# Altium footprint library con-3m.PCBLIB: 62 footprints (part 3 of 5)
Each footprint in its own frame and in the unit in brackets; x right, y up, seen from the top. Pads: shape width x height; smd on the part's side, far side on the other; paste and mask are expansions set on the pad; w line width, h text height; cw(c..) or ccw(c..) is an arc to the next point about the centre after c.
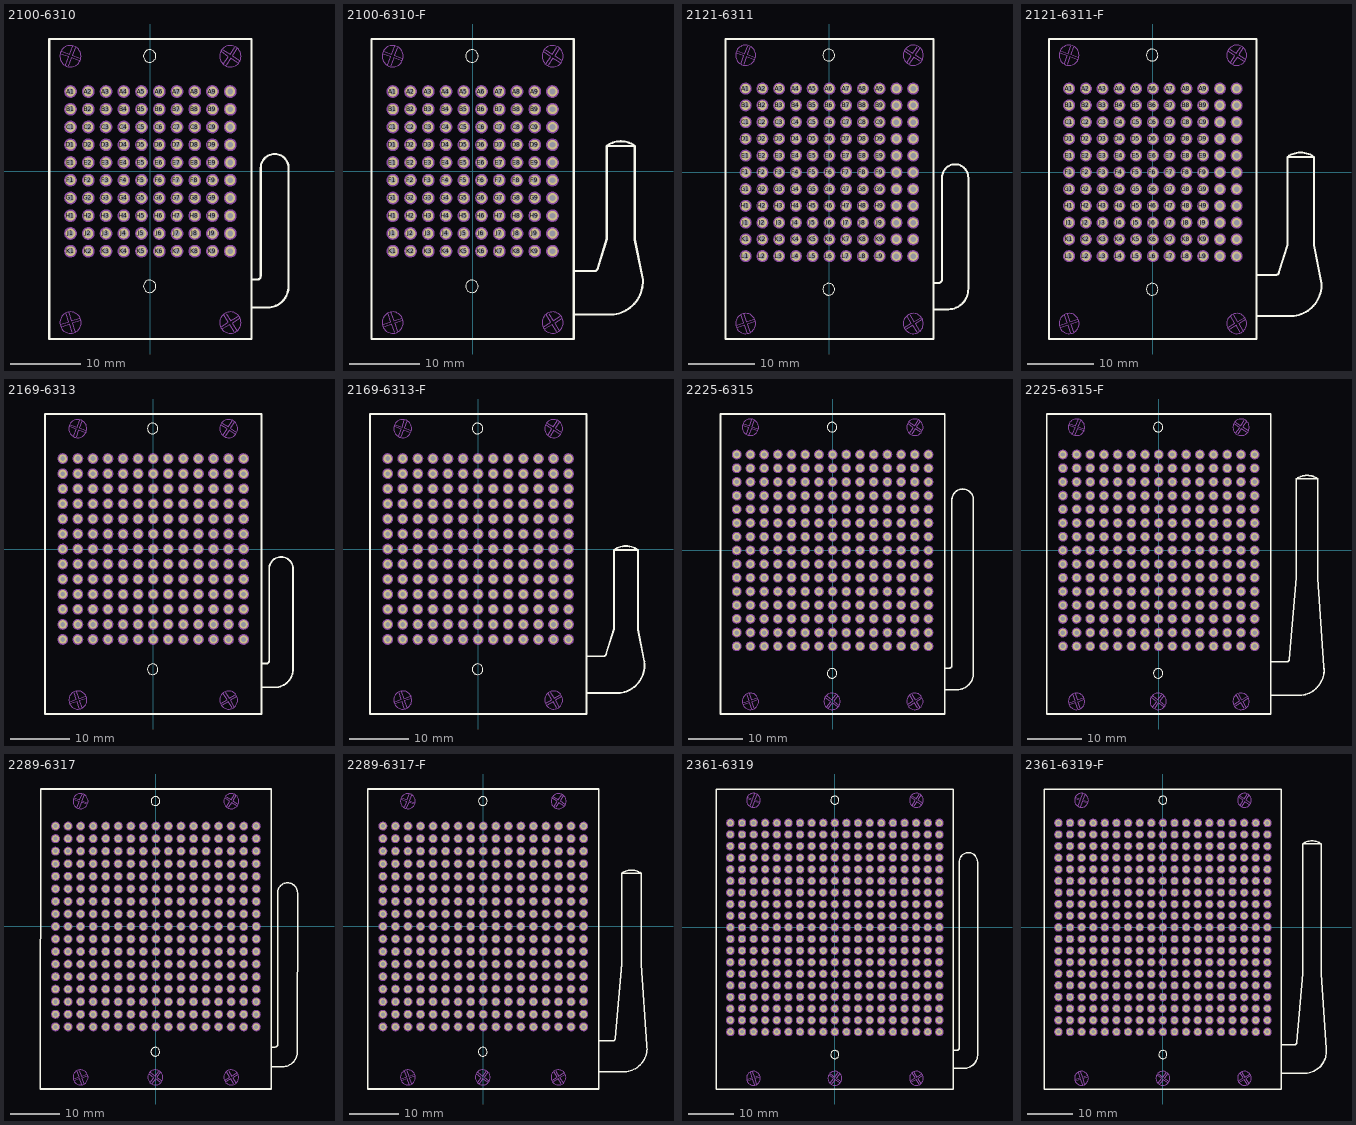
[diagram p2: the footprints below, top view; thin cyan lines are the x and y axes]

## 2100-6310 [mil]
pads (100):
  round 56 hole 32: A1(-450,450) A2(-350,450) A3(-250,450) A4(-150,450) A5(-50,450) A6(50,450) A7(150,450) A8(250,450) A9(350,450) A10(450,450) B1(-450,350) B2(-350,350) B3(-250,350) B4(-150,350) B5(-50,350) B6(50,350) B7(150,350) B8(250,350) B9(350,350) B10(450,350) C1(-450,250) C2(-350,250) C3(-250,250) C4(-150,250) C5(-50,250) C6(50,250) C7(150,250) C8(250,250) C9(350,250) C10(450,250) D1(-450,150) D2(-350,150) D3(-250,150) D4(-150,150) D5(-50,150) D6(50,150) D7(150,150) D8(250,150) D9(350,150) D10(450,150) E1(-450,50) E2(-350,50) E3(-250,50) E4(-150,50) E5(-50,50) E6(50,50) E7(150,50) E8(250,50) E9(350,50) E10(450,50) F1(-450,-50) F2(-350,-50) F3(-250,-50) F4(-150,-50) F5(-50,-50) F6(50,-50) F7(150,-50) F8(250,-50) F9(350,-50) F10(450,-50) G1(-450,-150) G2(-350,-150) G3(-250,-150) G4(-150,-150) G5(-50,-150) G6(50,-150) G7(150,-150) G8(250,-150) G9(350,-150) G10(450,-150) H1(-450,-250) H2(-350,-250) H3(-250,-250) H4(-150,-250) H5(-50,-250) H6(50,-250) H7(150,-250) H8(250,-250) H9(350,-250) H10(450,-250) J1(-450,-350) J2(-350,-350) J3(-250,-350) J4(-150,-350) J5(-50,-350) J6(50,-350) J7(150,-350) J8(250,-350) J9(350,-350) J10(450,-350) K1(-450,-450) K2(-350,-450) K3(-250,-450) K4(-150,-450) K5(-50,-450) K6(50,-450) K7(150,-450) K8(250,-450) K9(350,-450) K10(450,-450)
Top Overlay:
  circle w4: c-3.94,650 r35
  circle w4: c-3.94,-647.82 r35
  lines w12: 572,-767.52 661,-767.52 ccw(c658.88,-647.4) 779,-645.28 779,19 ccw(c700.5,19.5) 701,98 ccw(c701,19) 622,19 622,-590.35 cw(c602.16,-590.2) 602,-610.04 572,-610.04 ; -569.88,-944.68 570,-944.68 570,746 -569.88,746 -569.88,-944.68
Mechanical 16:
  circle w12: c-450,450 r30
  circle w12: c-450,350 r30
  circle w12: c-450,250 r30
  circle w12: c-450,150 r30
  circle w12: c-450,50 r30
  circle w12: c-450,-50 r30
  circle w12: c-450,-150 r30
  circle w12: c-450,-250 r30
  circle w12: c-450,-350 r30
  circle w12: c-450,-450 r30
  circle w12: c-350,450 r30
  circle w12: c-350,350 r30
  circle w12: c-350,250 r30
  circle w12: c-350,150 r30
  circle w12: c-350,50 r30
  circle w12: c-350,-50 r30
  circle w12: c-350,-150 r30
  circle w12: c-350,-250 r30
  circle w12: c-350,-350 r30
  circle w12: c-350,-450 r30
  circle w12: c-250,450 r30
  circle w12: c-250,350 r30
  circle w12: c-250,250 r30
  circle w12: c-250,150 r30
  circle w12: c-250,50 r30
  circle w12: c-250,-50 r30
  circle w12: c-250,-150 r30
  circle w12: c-250,-250 r30
  circle w12: c-250,-350 r30
  circle w12: c-250,-450 r30
  circle w12: c-150,450 r30
  circle w12: c-150,350 r30
  circle w12: c-150,250 r30
  circle w12: c-150,150 r30
  circle w12: c-150,50 r30
  circle w12: c-150,-50 r30
  circle w12: c-150,-150 r30
  circle w12: c-150,-250 r30
  circle w12: c-150,-350 r30
  circle w12: c-150,-450 r30
  circle w12: c-50,450 r30
  circle w12: c-50,350 r30
  circle w12: c-50,250 r30
  circle w12: c-50,150 r30
  circle w12: c-50,50 r30
  circle w12: c-50,-50 r30
  circle w12: c-50,-150 r30
  circle w12: c-50,-250 r30
  circle w12: c-50,-350 r30
  circle w12: c-50,-450 r30
  circle w12: c50,450 r30
  circle w12: c50,350 r30
  circle w12: c50,250 r30
  circle w12: c50,150 r30
  circle w12: c50,50 r30
  circle w12: c50,-50 r30
  circle w12: c50,-150 r30
  circle w12: c50,-250 r30
  circle w12: c50,-350 r30
  circle w12: c50,-450 r30
  circle w12: c150,450 r30
  circle w12: c150,350 r30
  circle w12: c150,250 r30
  circle w12: c150,150 r30
  circle w12: c150,50 r30
  circle w12: c150,-50 r30
  circle w12: c150,-150 r30
  circle w12: c150,-250 r30
  circle w12: c150,-350 r30
  circle w12: c150,-450 r30
  circle w12: c250,450 r30
  circle w12: c250,350 r30
  circle w12: c250,250 r30
  circle w12: c250,150 r30
  circle w12: c250,50 r30
  circle w12: c250,-50 r30
  circle w12: c250,-150 r30
  circle w12: c250,-250 r30
  circle w12: c250,-350 r30
  circle w12: c250,-450 r30
  circle w12: c350,450 r30
  circle w12: c350,350 r30
  circle w12: c350,250 r30
  circle w12: c350,150 r30
  circle w12: c350,50 r30
  circle w12: c350,-50 r30
  circle w12: c350,-150 r30
  circle w12: c350,-250 r30
  circle w12: c350,-350 r30
  circle w12: c350,-450 r30
  circle w12: c450,450 r30
  circle w12: c450,350 r30
  circle w12: c450,250 r30
  circle w12: c450,150 r30
  circle w12: c450,50 r30
  circle w12: c450,-50 r30
  circle w12: c450,-150 r30
  circle w12: c450,-250 r30
  circle w12: c450,-350 r30
  circle w12: c450,-450 r30
  circle w4: c-450,-852.36 r60
  circle w4: c451,-852.36 r60
  circle w4: c-450.39,649 r60
  circle w4: c451,649 r60
  lines w4: -504.83,661 -460.5,645 -476.81,600 ; -504.77,-862.38 -459.96,-847.39 -474.95,-802.59 ; -499.77,-877.32 -454.97,-862.33 -439.98,-907.13 ; -499.4,676 -455.06,659 -438.75,704 ; -462.04,595 -445.72,639 -401.38,623 ; -460.02,-797.59 -445.03,-842.39 -400.23,-827.41 ; -425.04,-902.13 -440.03,-857.33 -395.23,-842.34 ; -423.97,698 -440.28,654 -395.95,638 ; 400,-874.35 440,-849.74 415,-809.42 ; 401,673 440,647 414,608 ; 408,-887.8 448,-863.18 473,-903.51 ; 409,686 449,660 475,700 ; 427,599 453,638 493,612 ; 429,-801.21 454,-841.53 494,-816.92 ; 486,-895.3 462,-854.98 502,-830.36 ; 488,691 462,652 501,626

## 2100-6310-F [mil]
pads (100):
  round 56 hole 32: A1(-450,450) A2(-350,450) A3(-250,450) A4(-150,450) A5(-50,450) A6(50,450) A7(150,450) A8(250,450) A9(350,450) A10(450,450) B1(-450,350) B2(-350,350) B3(-250,350) B4(-150,350) B5(-50,350) B6(50,350) B7(150,350) B8(250,350) B9(350,350) B10(450,350) C1(-450,250) C2(-350,250) C3(-250,250) C4(-150,250) C5(-50,250) C6(50,250) C7(150,250) C8(250,250) C9(350,250) C10(450,250) D1(-450,150) D2(-350,150) D3(-250,150) D4(-150,150) D5(-50,150) D6(50,150) D7(150,150) D8(250,150) D9(350,150) D10(450,150) E1(-450,50) E2(-350,50) E3(-250,50) E4(-150,50) E5(-50,50) E6(50,50) E7(150,50) E8(250,50) E9(350,50) E10(450,50) F1(-450,-50) F2(-350,-50) F3(-250,-50) F4(-150,-50) F5(-50,-50) F6(50,-50) F7(150,-50) F8(250,-50) F9(350,-50) F10(450,-50) G1(-450,-150) G2(-350,-150) G3(-250,-150) G4(-150,-150) G5(-50,-150) G6(50,-150) G7(150,-150) G8(250,-150) G9(350,-150) G10(450,-150) H1(-450,-250) H2(-350,-250) H3(-250,-250) H4(-150,-250) H5(-50,-250) H6(50,-250) H7(150,-250) H8(250,-250) H9(350,-250) H10(450,-250) J1(-450,-350) J2(-350,-350) J3(-250,-350) J4(-150,-350) J5(-50,-350) J6(50,-350) J7(150,-350) J8(250,-350) J9(350,-350) J10(450,-350) K1(-450,-450) K2(-350,-450) K3(-250,-450) K4(-150,-450) K5(-50,-450) K6(50,-450) K7(150,-450) K8(250,-450) K9(350,-450) K10(450,-450)
Top Overlay:
  circle w4: c-3.94,650 r35
  circle w4: c-3.94,-647.82 r35
  lines w12: 573,-805.91 796,-805.91 ccw(c772.67,-620.57) 958,-597.24 914,-383.86 914,144 ; 577,-561.81 686,-561.81 ccw(c686.16,-541.97) 706,-542.13 756,-381.89 756,144 ; 756,144 914,144 ; 756,144 cw(c835,35.98) 914,144 ; -569.88,-944.68 570,-944.68 570,746 -569.88,746 -569.88,-944.68
Mechanical 16:
  circle w12: c-450,450 r30
  circle w12: c-450,350 r30
  circle w12: c-450,250 r30
  circle w12: c-450,150 r30
  circle w12: c-450,50 r30
  circle w12: c-450,-50 r30
  circle w12: c-450,-150 r30
  circle w12: c-450,-250 r30
  circle w12: c-450,-350 r30
  circle w12: c-450,-450 r30
  circle w12: c-350,450 r30
  circle w12: c-350,350 r30
  circle w12: c-350,250 r30
  circle w12: c-350,150 r30
  circle w12: c-350,50 r30
  circle w12: c-350,-50 r30
  circle w12: c-350,-150 r30
  circle w12: c-350,-250 r30
  circle w12: c-350,-350 r30
  circle w12: c-350,-450 r30
  circle w12: c-250,450 r30
  circle w12: c-250,350 r30
  circle w12: c-250,250 r30
  circle w12: c-250,150 r30
  circle w12: c-250,50 r30
  circle w12: c-250,-50 r30
  circle w12: c-250,-150 r30
  circle w12: c-250,-250 r30
  circle w12: c-250,-350 r30
  circle w12: c-250,-450 r30
  circle w12: c-150,450 r30
  circle w12: c-150,350 r30
  circle w12: c-150,250 r30
  circle w12: c-150,150 r30
  circle w12: c-150,50 r30
  circle w12: c-150,-50 r30
  circle w12: c-150,-150 r30
  circle w12: c-150,-250 r30
  circle w12: c-150,-350 r30
  circle w12: c-150,-450 r30
  circle w12: c-50,450 r30
  circle w12: c-50,350 r30
  circle w12: c-50,250 r30
  circle w12: c-50,150 r30
  circle w12: c-50,50 r30
  circle w12: c-50,-50 r30
  circle w12: c-50,-150 r30
  circle w12: c-50,-250 r30
  circle w12: c-50,-350 r30
  circle w12: c-50,-450 r30
  circle w12: c50,450 r30
  circle w12: c50,350 r30
  circle w12: c50,250 r30
  circle w12: c50,150 r30
  circle w12: c50,50 r30
  circle w12: c50,-50 r30
  circle w12: c50,-150 r30
  circle w12: c50,-250 r30
  circle w12: c50,-350 r30
  circle w12: c50,-450 r30
  circle w12: c150,450 r30
  circle w12: c150,350 r30
  circle w12: c150,250 r30
  circle w12: c150,150 r30
  circle w12: c150,50 r30
  circle w12: c150,-50 r30
  circle w12: c150,-150 r30
  circle w12: c150,-250 r30
  circle w12: c150,-350 r30
  circle w12: c150,-450 r30
  circle w12: c250,450 r30
  circle w12: c250,350 r30
  circle w12: c250,250 r30
  circle w12: c250,150 r30
  circle w12: c250,50 r30
  circle w12: c250,-50 r30
  circle w12: c250,-150 r30
  circle w12: c250,-250 r30
  circle w12: c250,-350 r30
  circle w12: c250,-450 r30
  circle w12: c350,450 r30
  circle w12: c350,350 r30
  circle w12: c350,250 r30
  circle w12: c350,150 r30
  circle w12: c350,50 r30
  circle w12: c350,-50 r30
  circle w12: c350,-150 r30
  circle w12: c350,-250 r30
  circle w12: c350,-350 r30
  circle w12: c350,-450 r30
  circle w12: c450,450 r30
  circle w12: c450,350 r30
  circle w12: c450,250 r30
  circle w12: c450,150 r30
  circle w12: c450,50 r30
  circle w12: c450,-50 r30
  circle w12: c450,-150 r30
  circle w12: c450,-250 r30
  circle w12: c450,-350 r30
  circle w12: c450,-450 r30
  circle w4: c-450,-852.36 r60
  circle w4: c451,-852.36 r60
  circle w4: c-450.39,649 r60
  circle w4: c451,649 r60
  lines w4: -504.83,661 -460.5,645 -476.81,600 ; -504.77,-862.38 -459.96,-847.39 -474.95,-802.59 ; -499.77,-877.32 -454.97,-862.33 -439.98,-907.13 ; -499.4,676 -455.06,659 -438.75,704 ; -462.04,595 -445.72,639 -401.38,623 ; -460.02,-797.59 -445.03,-842.39 -400.23,-827.41 ; -425.04,-902.13 -440.03,-857.33 -395.23,-842.34 ; -423.97,698 -440.28,654 -395.95,638 ; 400,-874.35 440,-849.74 415,-809.42 ; 401,673 440,647 414,608 ; 408,-887.8 448,-863.18 473,-903.51 ; 409,686 449,660 475,700 ; 427,599 453,638 493,612 ; 429,-801.21 454,-841.53 494,-816.92 ; 486,-895.3 462,-854.98 502,-830.36 ; 488,691 462,652 501,626

## 2121-6311 [mil]
pads (121):
  round 56 hole 32: A1(-500,500) A2(-400,500) A3(-300,500) A4(-200,500) A5(-100,500) A6(0,500) A7(100,500) A8(200,500) A9(300,500) A10(400,500) A11(500,500) B1(-500,400) B2(-400,400) B3(-300,400) B4(-200,400) B5(-100,400) B6(0,400) B7(100,400) B8(200,400) B9(300,400) B10(400,400) B11(500,400) C1(-500,300) C2(-400,300) C3(-300,300) C4(-200,300) C5(-100,300) C6(0,300) C7(100,300) C8(200,300) C9(300,300) C10(400,300) C11(500,300) D1(-500,200) D2(-400,200) D3(-300,200) D4(-200,200) D5(-100,200) D6(0,200) D7(100,200) D8(200,200) D9(300,200) D10(400,200) D11(500,200) E1(-500,100) E2(-400,100) E3(-300,100) E4(-200,100) E5(-100,100) E6(0,100) E7(100,100) E8(200,100) E9(300,100) E10(400,100) E11(500,100) F1(-500,0) F2(-400,0) F3(-300,0) F4(-200,0) F5(-100,0) F6(0,0) F7(100,0) F8(200,0) F9(300,0) F10(400,0) F11(500,0) G1(-500,-100) G2(-400,-100) G3(-300,-100) G4(-200,-100) G5(-100,-100) G6(0,-100) G7(100,-100) G8(200,-100) G9(300,-100) G10(400,-100) G11(500,-100) H1(-500,-200) H2(-400,-200) H3(-300,-200) H4(-200,-200) H5(-100,-200) H6(0,-200) H7(100,-200) H8(200,-200) H9(300,-200) H10(400,-200) H11(500,-200) J1(-500,-300) J2(-400,-300) J3(-300,-300) J4(-200,-300) J5(-100,-300) J6(0,-300) J7(100,-300) J8(200,-300) J9(300,-300) J10(400,-300) J11(500,-300) K1(-500,-400) K2(-400,-400) K3(-300,-400) K4(-200,-400) K5(-100,-400) K6(0,-400) K7(100,-400) K8(200,-400) K9(300,-400) K10(400,-400) K11(500,-400) L1(-500,-500) L2(-400,-500) L3(-300,-500) L4(-200,-500) L5(-100,-500) L6(0,-500) L7(100,-500) L8(200,-500) L9(300,-500) L10(400,-500) L11(500,-500)
Top Overlay:
  circle w4: c-3.94,700 r35
  circle w4: c-3.94,-697.82 r35
  lines w12: 622,-817.52 711,-817.52 ccw(c708.88,-697.4) 829,-695.28 829,-31.1 ccw(c750.45,-30.55) 751,48 ccw(c751.05,-31.05) 672,-31.1 672,-640.35 cw(c652.16,-640.2) 652,-660.04 622,-660.04 ; -619.88,-994.68 620,-994.68 620,796 -619.88,796 -619.88,-994.68
Mechanical 16:
  drawing of 157 lines, arcs and shapes, not listed

## 2121-6311-F [mil]
pads (121):
  round 56 hole 32: A1(-500,500) A2(-400,500) A3(-300,500) A4(-200,500) A5(-100,500) A6(0,500) A7(100,500) A8(200,500) A9(300,500) A10(400,500) A11(500,500) B1(-500,400) B2(-400,400) B3(-300,400) B4(-200,400) B5(-100,400) B6(0,400) B7(100,400) B8(200,400) B9(300,400) B10(400,400) B11(500,400) C1(-500,300) C2(-400,300) C3(-300,300) C4(-200,300) C5(-100,300) C6(0,300) C7(100,300) C8(200,300) C9(300,300) C10(400,300) C11(500,300) D1(-500,200) D2(-400,200) D3(-300,200) D4(-200,200) D5(-100,200) D6(0,200) D7(100,200) D8(200,200) D9(300,200) D10(400,200) D11(500,200) E1(-500,100) E2(-400,100) E3(-300,100) E4(-200,100) E5(-100,100) E6(0,100) E7(100,100) E8(200,100) E9(300,100) E10(400,100) E11(500,100) F1(-500,0) F2(-400,0) F3(-300,0) F4(-200,0) F5(-100,0) F6(0,0) F7(100,0) F8(200,0) F9(300,0) F10(400,0) F11(500,0) G1(-500,-100) G2(-400,-100) G3(-300,-100) G4(-200,-100) G5(-100,-100) G6(0,-100) G7(100,-100) G8(200,-100) G9(300,-100) G10(400,-100) G11(500,-100) H1(-500,-200) H2(-400,-200) H3(-300,-200) H4(-200,-200) H5(-100,-200) H6(0,-200) H7(100,-200) H8(200,-200) H9(300,-200) H10(400,-200) H11(500,-200) J1(-500,-300) J2(-400,-300) J3(-300,-300) J4(-200,-300) J5(-100,-300) J6(0,-300) J7(100,-300) J8(200,-300) J9(300,-300) J10(400,-300) J11(500,-300) K1(-500,-400) K2(-400,-400) K3(-300,-400) K4(-200,-400) K5(-100,-400) K6(0,-400) K7(100,-400) K8(200,-400) K9(300,-400) K10(400,-400) K11(500,-400) L1(-500,-500) L2(-400,-500) L3(-300,-500) L4(-200,-500) L5(-100,-500) L6(0,-500) L7(100,-500) L8(200,-500) L9(300,-500) L10(400,-500) L11(500,-500)
Top Overlay:
  circle w4: c-3.94,700 r35
  circle w4: c-3.94,-697.82 r35
  lines w12: 620,-857.09 843,-857.09 ccw(c819.67,-671.76) 1005,-648.43 961,-435.04 961,93 ; 624,-612.99 733,-612.99 ccw(c733.16,-593.15) 753,-593.31 804,-433.07 804,93 ; 804,93 961,93 ; 804,93 cw(c882.5,-14.33) 961,93 ; -619.88,-994.68 620,-994.68 620,796 -619.88,796 -619.88,-994.68
Mechanical 16:
  drawing of 157 lines, arcs and shapes, not listed

## 2169-6313 [mil]
pads (169):
  round 56 hole 32: A1(-600,600) A2(-500,600) A3(-400,600) A4(-300,600) A5(-200,600) A6(-100,600) A7(0,600) A8(100,600) A9(200,600) A10(300,600) A11(400,600) A12(500,600) A13(600,600) B1(-600,500) B2(-500,500) B3(-400,500) B4(-300,500) B5(-200,500) B6(-100,500) B7(0,500) B8(100,500) B9(200,500) B10(300,500) B11(400,500) B12(500,500) B13(600,500) C1(-600,400) C2(-500,400) C3(-400,400) C4(-300,400) C5(-200,400) C6(-100,400) C7(0,400) C8(100,400) C9(200,400) C10(300,400) C11(400,400) C12(500,400) C13(600,400) D1(-600,300) D2(-500,300) D3(-400,300) D4(-300,300) D5(-200,300) D6(-100,300) D7(0,300) D8(100,300) D9(200,300) D10(300,300) D11(400,300) D12(500,300) D13(600,300) E1(-600,200) E2(-500,200) E3(-400,200) E4(-300,200) E5(-200,200) E6(-100,200) E7(0,200) E8(100,200) E9(200,200) E10(300,200) E11(400,200) E12(500,200) E13(600,200) F1(-600,100) F2(-500,100) F3(-400,100) F4(-300,100) F5(-200,100) F6(-100,100) F7(0,100) F8(100,100) F9(200,100) F10(300,100) F11(400,100) F12(500,100) F13(600,100) G1(-600,0) G2(-500,0) G3(-400,0) G4(-300,0) G5(-200,0) G6(-100,0) G7(0,0) G8(100,0) G9(200,0) G10(300,0) G11(400,0) G12(500,0) G13(600,0) H1(-600,-100) H2(-500,-100) H3(-400,-100) H4(-300,-100) H5(-200,-100) H6(-100,-100) H7(0,-100) H8(100,-100) H9(200,-100) H10(300,-100) H11(400,-100) H12(500,-100) H13(600,-100) J1(-600,-200) J2(-500,-200) J3(-400,-200) J4(-300,-200) J5(-200,-200) J6(-100,-200) J7(0,-200) J8(100,-200) J9(200,-200) J10(300,-200) J11(400,-200) J12(500,-200) J13(600,-200) K1(-600,-300) K2(-500,-300) K3(-400,-300) K4(-300,-300) K5(-200,-300) K6(-100,-300) K7(0,-300) K8(100,-300) K9(200,-300) K10(300,-300) K11(400,-300) K12(500,-300) K13(600,-300) L1(-600,-400) L2(-500,-400) L3(-400,-400) L4(-300,-400) L5(-200,-400) L6(-100,-400) L7(0,-400) L8(100,-400) L9(200,-400) L10(300,-400) L11(400,-400) L12(500,-400) L13(600,-400) M1(-600,-500) M2(-500,-500) M3(-400,-500) M4(-300,-500) M5(-200,-500) M6(-100,-500) M7(0,-500) M8(100,-500) M9(200,-500) M10(300,-500) M11(400,-500) M12(500,-500) M13(600,-500) N1(-600,-600) N2(-500,-600) N3(-400,-600) N4(-300,-600) N5(-200,-600) N6(-100,-600) N7(0,-600) N8(100,-600) N9(200,-600) N10(300,-600) N11(400,-600) N12(500,-600) N13(600,-600)
Top Overlay:
  circle w4: c-3.94,800 r35
  circle w4: c-3.94,-797.82 r35
  lines w12: 721,-917.52 810,-917.52 ccw(c807.88,-797.4) 928,-795.28 928,-131.1 ccw(c849.13,-131.23) 849,-52.36 ccw(c848.87,-131.23) 770,-131.1 770,-740.35 cw(c750.66,-740.7) 751,-760.04 721,-760.04 ; -718.31,-1094.68 719,-1094.68 719,896 -718.31,896 -718.31,-1094.68
Mechanical 16:
  drawing of 205 lines, arcs and shapes, not listed

## 2169-6313-F [mil]
pads (169):
  round 56 hole 32: A1(-600,600) A2(-500,600) A3(-400,600) A4(-300,600) A5(-200,600) A6(-100,600) A7(0,600) A8(100,600) A9(200,600) A10(300,600) A11(400,600) A12(500,600) A13(600,600) B1(-600,500) B2(-500,500) B3(-400,500) B4(-300,500) B5(-200,500) B6(-100,500) B7(0,500) B8(100,500) B9(200,500) B10(300,500) B11(400,500) B12(500,500) B13(600,500) C1(-600,400) C2(-500,400) C3(-400,400) C4(-300,400) C5(-200,400) C6(-100,400) C7(0,400) C8(100,400) C9(200,400) C10(300,400) C11(400,400) C12(500,400) C13(600,400) D1(-600,300) D2(-500,300) D3(-400,300) D4(-300,300) D5(-200,300) D6(-100,300) D7(0,300) D8(100,300) D9(200,300) D10(300,300) D11(400,300) D12(500,300) D13(600,300) E1(-600,200) E2(-500,200) E3(-400,200) E4(-300,200) E5(-200,200) E6(-100,200) E7(0,200) E8(100,200) E9(200,200) E10(300,200) E11(400,200) E12(500,200) E13(600,200) F1(-600,100) F2(-500,100) F3(-400,100) F4(-300,100) F5(-200,100) F6(-100,100) F7(0,100) F8(100,100) F9(200,100) F10(300,100) F11(400,100) F12(500,100) F13(600,100) G1(-600,0) G2(-500,0) G3(-400,0) G4(-300,0) G5(-200,0) G6(-100,0) G7(0,0) G8(100,0) G9(200,0) G10(300,0) G11(400,0) G12(500,0) G13(600,0) H1(-600,-100) H2(-500,-100) H3(-400,-100) H4(-300,-100) H5(-200,-100) H6(-100,-100) H7(0,-100) H8(100,-100) H9(200,-100) H10(300,-100) H11(400,-100) H12(500,-100) H13(600,-100) J1(-600,-200) J2(-500,-200) J3(-400,-200) J4(-300,-200) J5(-200,-200) J6(-100,-200) J7(0,-200) J8(100,-200) J9(200,-200) J10(300,-200) J11(400,-200) J12(500,-200) J13(600,-200) K1(-600,-300) K2(-500,-300) K3(-400,-300) K4(-300,-300) K5(-200,-300) K6(-100,-300) K7(0,-300) K8(100,-300) K9(200,-300) K10(300,-300) K11(400,-300) K12(500,-300) K13(600,-300) L1(-600,-400) L2(-500,-400) L3(-400,-400) L4(-300,-400) L5(-200,-400) L6(-100,-400) L7(0,-400) L8(100,-400) L9(200,-400) L10(300,-400) L11(400,-400) L12(500,-400) L13(600,-400) M1(-600,-500) M2(-500,-500) M3(-400,-500) M4(-300,-500) M5(-200,-500) M6(-100,-500) M7(0,-500) M8(100,-500) M9(200,-500) M10(300,-500) M11(400,-500) M12(500,-500) M13(600,-500) N1(-600,-600) N2(-500,-600) N3(-400,-600) N4(-300,-600) N5(-200,-600) N6(-100,-600) N7(0,-600) N8(100,-600) N9(200,-600) N10(300,-600) N11(400,-600) N12(500,-600) N13(600,-600)
Top Overlay:
  circle w4: c-3.94,800 r35
  circle w4: c-3.94,-797.82 r35
  lines w12: 719,-955.51 942,-955.51 ccw(c918.17,-770.68) 1103,-746.85 1060,-533.46 1060,-5.91 ; 723,-711.42 832,-711.42 ccw(c831.66,-692.07) 851,-691.73 902,-531.5 902,-5.91 ; 902,-5.91 1060,-5.91 ; 902,-5.91 cw(c981,-113.92) 1060,-5.91 ; -718.31,-1094.68 719,-1094.68 719,896 -718.31,896 -718.31,-1094.68
Mechanical 16:
  drawing of 205 lines, arcs and shapes, not listed

## 2225-6315 [mil]
pads (225):
  round 56 hole 32: A1(-700,700) A2(-600,700) A3(-500,700) A4(-400,700) A5(-300,700) A6(-200,700) A7(-100,700) A8(0,700) A9(100,700) A10(200,700) A11(300,700) A12(400,700) A13(500,700) A14(600,700) A15(700,700) B1(-700,600) B2(-600,600) B3(-500,600) B4(-400,600) B5(-300,600) B6(-200,600) B7(-100,600) B8(0,600) B9(100,600) B10(200,600) B11(300,600) B12(400,600) B13(500,600) B14(600,600) B15(700,600) C1(-700,500) C2(-600,500) C3(-500,500) C4(-400,500) C5(-300,500) C6(-200,500) C7(-100,500) C8(0,500) C9(100,500) C10(200,500) C11(300,500) C12(400,500) C13(500,500) C14(600,500) C15(700,500) D1(-700,400) D2(-600,400) D3(-500,400) D4(-400,400) D5(-300,400) D6(-200,400) D7(-100,400) D8(0,400) D9(100,400) D10(200,400) D11(300,400) D12(400,400) D13(500,400) D14(600,400) D15(700,400) E1(-700,300) E2(-600,300) E3(-500,300) E4(-400,300) E5(-300,300) E6(-200,300) E7(-100,300) E8(0,300) E9(100,300) E10(200,300) E11(300,300) E12(400,300) E13(500,300) E14(600,300) E15(700,300) F1(-700,200) F2(-600,200) F3(-500,200) F4(-400,200) F5(-300,200) F6(-200,200) F7(-100,200) F8(0,200) F9(100,200) F10(200,200) F11(300,200) F12(400,200) F13(500,200) F14(600,200) F15(700,200) G1(-700,100) G2(-600,100) G3(-500,100) G4(-400,100) G5(-300,100) G6(-200,100) G7(-100,100) G8(0,100) G9(100,100) G10(200,100) G11(300,100) G12(400,100) G13(500,100) G14(600,100) G15(700,100) H1(-700,0) H2(-600,0) H3(-500,0) H4(-400,0) H5(-300,0) H6(-200,0) H7(-100,0) H8(0,0) H9(100,0) H10(200,0) H11(300,0) H12(400,0) H13(500,0) H14(600,0) H15(700,0) J1(-700,-100) J2(-600,-100) J3(-500,-100) J4(-400,-100) J5(-300,-100) J6(-200,-100) J7(-100,-100) J8(0,-100) J9(100,-100) J10(200,-100) J11(300,-100) J12(400,-100) J13(500,-100) J14(600,-100) J15(700,-100) K1(-700,-200) K2(-600,-200) K3(-500,-200) K4(-400,-200) K5(-300,-200) K6(-200,-200) K7(-100,-200) K8(0,-200) K9(100,-200) K10(200,-200) K11(300,-200) K12(400,-200) K13(500,-200) K14(600,-200) K15(700,-200) L1(-700,-300) L2(-600,-300) L3(-500,-300) L4(-400,-300) L5(-300,-300) L6(-200,-300) L7(-100,-300) L8(0,-300) L9(100,-300) L10(200,-300) L11(300,-300) L12(400,-300) L13(500,-300) L14(600,-300) L15(700,-300) M1(-700,-400) M2(-600,-400) M3(-500,-400) M4(-400,-400) M5(-300,-400) M6(-200,-400) M7(-100,-400) M8(0,-400) M9(100,-400) M10(200,-400) M11(300,-400) M12(400,-400) M13(500,-400) M14(600,-400) M15(700,-400) N1(-700,-500) N2(-600,-500) N3(-500,-500) N4(-400,-500) N5(-300,-500) N6(-200,-500) N7(-100,-500) N8(0,-500) N9(100,-500) N10(200,-500) N11(300,-500) N12(400,-500) N13(500,-500) N14(600,-500) N15(700,-500) P1(-700,-600) P2(-600,-600) P3(-500,-600) P4(-400,-600) P5(-300,-600) P6(-200,-600) P7(-100,-600) P8(0,-600) P9(100,-600) P10(200,-600) P11(300,-600) P12(400,-600) P13(500,-600) P14(600,-600) P15(700,-600) Q1(-700,-700) Q2(-600,-700) Q3(-500,-700) Q4(-400,-700) Q5(-300,-700) Q6(-200,-700) Q7(-100,-700) Q8(0,-700) Q9(100,-700) Q10(200,-700) Q11(300,-700) Q12(400,-700) Q13(500,-700) Q14(600,-700) Q15(700,-700)
Top Overlay:
  circle w4: c-3.94,900 r35
  circle w4: c-3.94,-897.82 r35
  lines w12: 821,-1017.52 910,-1017.52 ccw(c907.88,-897.4) 1028,-895.28 1028,369 ccw(c949.5,369.5) 950,448 ccw(c950,369) 871,369 871,-840.35 cw(c851.16,-840.2) 851,-860.04 821,-860.04 ; -818.7,-1194.68 819,-1194.68 819,996 -818.7,996 -818.7,-1194.68
Mechanical 16:
  drawing of 270 lines, arcs and shapes, not listed

## 2225-6315-F [mil]
pads (225):
  round 56 hole 32: A1(-700,700) A2(-600,700) A3(-500,700) A4(-400,700) A5(-300,700) A6(-200,700) A7(-100,700) A8(0,700) A9(100,700) A10(200,700) A11(300,700) A12(400,700) A13(500,700) A14(600,700) A15(700,700) B1(-700,600) B2(-600,600) B3(-500,600) B4(-400,600) B5(-300,600) B6(-200,600) B7(-100,600) B8(0,600) B9(100,600) B10(200,600) B11(300,600) B12(400,600) B13(500,600) B14(600,600) B15(700,600) C1(-700,500) C2(-600,500) C3(-500,500) C4(-400,500) C5(-300,500) C6(-200,500) C7(-100,500) C8(0,500) C9(100,500) C10(200,500) C11(300,500) C12(400,500) C13(500,500) C14(600,500) C15(700,500) D1(-700,400) D2(-600,400) D3(-500,400) D4(-400,400) D5(-300,400) D6(-200,400) D7(-100,400) D8(0,400) D9(100,400) D10(200,400) D11(300,400) D12(400,400) D13(500,400) D14(600,400) D15(700,400) E1(-700,300) E2(-600,300) E3(-500,300) E4(-400,300) E5(-300,300) E6(-200,300) E7(-100,300) E8(0,300) E9(100,300) E10(200,300) E11(300,300) E12(400,300) E13(500,300) E14(600,300) E15(700,300) F1(-700,200) F2(-600,200) F3(-500,200) F4(-400,200) F5(-300,200) F6(-200,200) F7(-100,200) F8(0,200) F9(100,200) F10(200,200) F11(300,200) F12(400,200) F13(500,200) F14(600,200) F15(700,200) G1(-700,100) G2(-600,100) G3(-500,100) G4(-400,100) G5(-300,100) G6(-200,100) G7(-100,100) G8(0,100) G9(100,100) G10(200,100) G11(300,100) G12(400,100) G13(500,100) G14(600,100) G15(700,100) H1(-700,0) H2(-600,0) H3(-500,0) H4(-400,0) H5(-300,0) H6(-200,0) H7(-100,0) H8(0,0) H9(100,0) H10(200,0) H11(300,0) H12(400,0) H13(500,0) H14(600,0) H15(700,0) J1(-700,-100) J2(-600,-100) J3(-500,-100) J4(-400,-100) J5(-300,-100) J6(-200,-100) J7(-100,-100) J8(0,-100) J9(100,-100) J10(200,-100) J11(300,-100) J12(400,-100) J13(500,-100) J14(600,-100) J15(700,-100) K1(-700,-200) K2(-600,-200) K3(-500,-200) K4(-400,-200) K5(-300,-200) K6(-200,-200) K7(-100,-200) K8(0,-200) K9(100,-200) K10(200,-200) K11(300,-200) K12(400,-200) K13(500,-200) K14(600,-200) K15(700,-200) L1(-700,-300) L2(-600,-300) L3(-500,-300) L4(-400,-300) L5(-300,-300) L6(-200,-300) L7(-100,-300) L8(0,-300) L9(100,-300) L10(200,-300) L11(300,-300) L12(400,-300) L13(500,-300) L14(600,-300) L15(700,-300) M1(-700,-400) M2(-600,-400) M3(-500,-400) M4(-400,-400) M5(-300,-400) M6(-200,-400) M7(-100,-400) M8(0,-400) M9(100,-400) M10(200,-400) M11(300,-400) M12(400,-400) M13(500,-400) M14(600,-400) M15(700,-400) N1(-700,-500) N2(-600,-500) N3(-500,-500) N4(-400,-500) N5(-300,-500) N6(-200,-500) N7(-100,-500) N8(0,-500) N9(100,-500) N10(200,-500) N11(300,-500) N12(400,-500) N13(500,-500) N14(600,-500) N15(700,-500) P1(-700,-600) P2(-600,-600) P3(-500,-600) P4(-400,-600) P5(-300,-600) P6(-200,-600) P7(-100,-600) P8(0,-600) P9(100,-600) P10(200,-600) P11(300,-600) P12(400,-600) P13(500,-600) P14(600,-600) P15(700,-600) Q1(-700,-700) Q2(-600,-700) Q3(-500,-700) Q4(-400,-700) Q5(-300,-700) Q6(-200,-700) Q7(-100,-700) Q8(0,-700) Q9(100,-700) Q10(200,-700) Q11(300,-700) Q12(400,-700) Q13(500,-700) Q14(600,-700) Q15(700,-700)
Top Overlay:
  circle w4: c-3.94,900 r35
  circle w4: c-3.94,-897.82 r35
  lines w12: 821,-1057.87 1044,-1057.87 ccw(c1020.67,-872.54) 1206,-849.21 1162,-202.76 1162,522 ; 825,-813.78 934,-813.78 ccw(c934.16,-793.94) 954,-794.09 1004,-200.79 1004,522 ; 1004,522 1162,522 ; 1004,522 cw(c1083,413.98) 1162,522 ; -818.7,-1194.68 819,-1194.68 819,996 -818.7,996 -818.7,-1194.68
Mechanical 16:
  drawing of 270 lines, arcs and shapes, not listed

## 2289-6317 [mil]
pads (289):
  round 56 hole 32: A1(-800,800) A2(-700,800) A3(-600,800) A4(-500,800) A5(-400,800) A6(-300,800) A7(-200,800) A8(-100,800) A9(0,800) A10(100,800) A11(200,800) A12(300,800) A13(400,800) A14(500,800) A15(600,800) A16(700,800) A17(800,800) B1(-800,700) B2(-700,700) B3(-600,700) B4(-500,700) B5(-400,700) B6(-300,700) B7(-200,700) B8(-100,700) B9(0,700) B10(100,700) B11(200,700) B12(300,700) B13(400,700) B14(500,700) B15(600,700) B16(700,700) B17(800,700) C1(-800,600) C2(-700,600) C3(-600,600) C4(-500,600) C5(-400,600) C6(-300,600) C7(-200,600) C8(-100,600) C9(0,600) C10(100,600) C11(200,600) C12(300,600) C13(400,600) C14(500,600) C15(600,600) C16(700,600) C17(800,600) D1(-800,500) D2(-700,500) D3(-600,500) D4(-500,500) D5(-400,500) D6(-300,500) D7(-200,500) D8(-100,500) D9(0,500) D10(100,500) D11(200,500) D12(300,500) D13(400,500) D14(500,500) D15(600,500) D16(700,500) D17(800,500) E1(-800,400) E2(-700,400) E3(-600,400) E4(-500,400) E5(-400,400) E6(-300,400) E7(-200,400) E8(-100,400) E9(0,400) E10(100,400) E11(200,400) E12(300,400) E13(400,400) E14(500,400) E15(600,400) E16(700,400) E17(800,400) F1(-800,300) F2(-700,300) F3(-600,300) F4(-500,300) F5(-400,300) F6(-300,300) F7(-200,300) F8(-100,300) F9(0,300) F10(100,300) F11(200,300) F12(300,300) F13(400,300) F14(500,300) F15(600,300) F16(700,300) F17(800,300) G1(-800,200) G2(-700,200) G3(-600,200) G4(-500,200) G5(-400,200) G6(-300,200) G7(-200,200) G8(-100,200) G9(0,200) G10(100,200) G11(200,200) G12(300,200) G13(400,200) G14(500,200) G15(600,200) G16(700,200) G17(800,200) H1(-800,100) H2(-700,100) H3(-600,100) H4(-500,100) H5(-400,100) H6(-300,100) H7(-200,100) H8(-100,100) H9(0,100) H10(100,100) H11(200,100) H12(300,100) H13(400,100) H14(500,100) H15(600,100) H16(700,100) H17(800,100) J1(-800,0) J2(-700,0) J3(-600,0) J4(-500,0) J5(-400,0) J6(-300,0) J7(-200,0) J8(-100,0) J9(0,0) J10(100,0) J11(200,0) J12(300,0) J13(400,0) J14(500,0) J15(600,0) J16(700,0) J17(800,0) K1(-800,-100) K2(-700,-100) K3(-600,-100) K4(-500,-100) K5(-400,-100) K6(-300,-100) K7(-200,-100) K8(-100,-100) K9(0,-100) K10(100,-100) K11(200,-100) K12(300,-100) K13(400,-100) K14(500,-100) K15(600,-100) K16(700,-100) K17(800,-100) L1(-800,-200) L2(-700,-200) L3(-600,-200) L4(-500,-200) L5(-400,-200) L6(-300,-200) L7(-200,-200) L8(-100,-200) L9(0,-200) L10(100,-200) L11(200,-200) L12(300,-200) L13(400,-200) L14(500,-200) L15(600,-200) L16(700,-200) L17(800,-200) M1(-800,-300) M2(-700,-300) M3(-600,-300) M4(-500,-300) M5(-400,-300) M6(-300,-300) M7(-200,-300) M8(-100,-300) M9(0,-300) M10(100,-300) M11(200,-300) M12(300,-300) M13(400,-300) M14(500,-300) M15(600,-300) M16(700,-300) M17(800,-300) N1(-800,-400) N2(-700,-400) N3(-600,-400) N4(-500,-400) N5(-400,-400) N6(-300,-400) N7(-200,-400) N8(-100,-400) N9(0,-400) N10(100,-400) N11(200,-400) N12(300,-400) N13(400,-400) N14(500,-400) N15(600,-400) N16(700,-400) N17(800,-400) P1(-800,-500) P2(-700,-500) P3(-600,-500) P4(-500,-500) P5(-400,-500) P6(-300,-500) P7(-200,-500) P8(-100,-500) P9(0,-500) P10(100,-500) P11(200,-500) P12(300,-500) P13(400,-500) P14(500,-500) P15(600,-500) P16(700,-500) P17(800,-500) Q1(-800,-600) Q2(-700,-600) Q3(-600,-600) Q4(-500,-600) Q5(-400,-600) Q6(-300,-600) Q7(-200,-600) Q8(-100,-600) Q9(0,-600) Q10(100,-600) Q11(200,-600) Q12(300,-600) Q13(400,-600) Q14(500,-600) Q15(600,-600) Q16(700,-600) Q17(800,-600) R1(-800,-700) R2(-700,-700) R3(-600,-700) R4(-500,-700) R5(-400,-700) R6(-300,-700) R7(-200,-700) R8(-100,-700) R9(0,-700) R10(100,-700) R11(200,-700) R12(300,-700) R13(400,-700) R14(500,-700) R15(600,-700) R16(700,-700) R17(800,-700) S1(-800,-800) S2(-700,-800) S3(-600,-800) S4(-500,-800) S5(-400,-800) S6(-300,-800) S7(-200,-800) S8(-100,-800) S9(0,-800) S10(100,-800) S11(200,-800) S12(300,-800) S13(400,-800) S14(500,-800) S15(600,-800) S16(700,-800) S17(800,-800)
Top Overlay:
  circle w4: c-3.94,1000 r35
  circle w4: c-4.33,-998.61 r35
  lines w12: 921,-1118.31 1010,-1118.31 ccw(c1007.88,-998.18) 1128,-996.06 1129,269 ccw(c1050,269) 1050,348 ccw(c1050,269) 971,269 971,-941.14 cw(c951.16,-940.98) 951,-960.83 921,-960.83 ; -919.88,-1295.47 919,-1295.47 920,1096 -919.49,1096 -919.88,-1295.47
Mechanical 16:
  drawing of 334 lines, arcs and shapes, not listed

## 2289-6317-F [mil]
pads (289):
  round 56 hole 32: A1(-800,800) A2(-700,800) A3(-600,800) A4(-500,800) A5(-400,800) A6(-300,800) A7(-200,800) A8(-100,800) A9(0,800) A10(100,800) A11(200,800) A12(300,800) A13(400,800) A14(500,800) A15(600,800) A16(700,800) A17(800,800) B1(-800,700) B2(-700,700) B3(-600,700) B4(-500,700) B5(-400,700) B6(-300,700) B7(-200,700) B8(-100,700) B9(0,700) B10(100,700) B11(200,700) B12(300,700) B13(400,700) B14(500,700) B15(600,700) B16(700,700) B17(800,700) C1(-800,600) C2(-700,600) C3(-600,600) C4(-500,600) C5(-400,600) C6(-300,600) C7(-200,600) C8(-100,600) C9(0,600) C10(100,600) C11(200,600) C12(300,600) C13(400,600) C14(500,600) C15(600,600) C16(700,600) C17(800,600) D1(-800,500) D2(-700,500) D3(-600,500) D4(-500,500) D5(-400,500) D6(-300,500) D7(-200,500) D8(-100,500) D9(0,500) D10(100,500) D11(200,500) D12(300,500) D13(400,500) D14(500,500) D15(600,500) D16(700,500) D17(800,500) E1(-800,400) E2(-700,400) E3(-600,400) E4(-500,400) E5(-400,400) E6(-300,400) E7(-200,400) E8(-100,400) E9(0,400) E10(100,400) E11(200,400) E12(300,400) E13(400,400) E14(500,400) E15(600,400) E16(700,400) E17(800,400) F1(-800,300) F2(-700,300) F3(-600,300) F4(-500,300) F5(-400,300) F6(-300,300) F7(-200,300) F8(-100,300) F9(0,300) F10(100,300) F11(200,300) F12(300,300) F13(400,300) F14(500,300) F15(600,300) F16(700,300) F17(800,300) G1(-800,200) G2(-700,200) G3(-600,200) G4(-500,200) G5(-400,200) G6(-300,200) G7(-200,200) G8(-100,200) G9(0,200) G10(100,200) G11(200,200) G12(300,200) G13(400,200) G14(500,200) G15(600,200) G16(700,200) G17(800,200) H1(-800,100) H2(-700,100) H3(-600,100) H4(-500,100) H5(-400,100) H6(-300,100) H7(-200,100) H8(-100,100) H9(0,100) H10(100,100) H11(200,100) H12(300,100) H13(400,100) H14(500,100) H15(600,100) H16(700,100) H17(800,100) J1(-800,0) J2(-700,0) J3(-600,0) J4(-500,0) J5(-400,0) J6(-300,0) J7(-200,0) J8(-100,0) J9(0,0) J10(100,0) J11(200,0) J12(300,0) J13(400,0) J14(500,0) J15(600,0) J16(700,0) J17(800,0) K1(-800,-100) K2(-700,-100) K3(-600,-100) K4(-500,-100) K5(-400,-100) K6(-300,-100) K7(-200,-100) K8(-100,-100) K9(0,-100) K10(100,-100) K11(200,-100) K12(300,-100) K13(400,-100) K14(500,-100) K15(600,-100) K16(700,-100) K17(800,-100) L1(-800,-200) L2(-700,-200) L3(-600,-200) L4(-500,-200) L5(-400,-200) L6(-300,-200) L7(-200,-200) L8(-100,-200) L9(0,-200) L10(100,-200) L11(200,-200) L12(300,-200) L13(400,-200) L14(500,-200) L15(600,-200) L16(700,-200) L17(800,-200) M1(-800,-300) M2(-700,-300) M3(-600,-300) M4(-500,-300) M5(-400,-300) M6(-300,-300) M7(-200,-300) M8(-100,-300) M9(0,-300) M10(100,-300) M11(200,-300) M12(300,-300) M13(400,-300) M14(500,-300) M15(600,-300) M16(700,-300) M17(800,-300) N1(-800,-400) N2(-700,-400) N3(-600,-400) N4(-500,-400) N5(-400,-400) N6(-300,-400) N7(-200,-400) N8(-100,-400) N9(0,-400) N10(100,-400) N11(200,-400) N12(300,-400) N13(400,-400) N14(500,-400) N15(600,-400) N16(700,-400) N17(800,-400) P1(-800,-500) P2(-700,-500) P3(-600,-500) P4(-500,-500) P5(-400,-500) P6(-300,-500) P7(-200,-500) P8(-100,-500) P9(0,-500) P10(100,-500) P11(200,-500) P12(300,-500) P13(400,-500) P14(500,-500) P15(600,-500) P16(700,-500) P17(800,-500) Q1(-800,-600) Q2(-700,-600) Q3(-600,-600) Q4(-500,-600) Q5(-400,-600) Q6(-300,-600) Q7(-200,-600) Q8(-100,-600) Q9(0,-600) Q10(100,-600) Q11(200,-600) Q12(300,-600) Q13(400,-600) Q14(500,-600) Q15(600,-600) Q16(700,-600) Q17(800,-600) R1(-800,-700) R2(-700,-700) R3(-600,-700) R4(-500,-700) R5(-400,-700) R6(-300,-700) R7(-200,-700) R8(-100,-700) R9(0,-700) R10(100,-700) R11(200,-700) R12(300,-700) R13(400,-700) R14(500,-700) R15(600,-700) R16(700,-700) R17(800,-700) S1(-800,-800) S2(-700,-800) S3(-600,-800) S4(-500,-800) S5(-400,-800) S6(-300,-800) S7(-200,-800) S8(-100,-800) S9(0,-800) S10(100,-800) S11(200,-800) S12(300,-800) S13(400,-800) S14(500,-800) S15(600,-800) S16(700,-800) S17(800,-800)
Top Overlay:
  circle w4: c-3.94,1000 r35
  circle w4: c-4.33,-998.61 r35
  lines w12: 920,-1156.3 1143,-1156.3 ccw(c1119.17,-971.47) 1304,-947.64 1260,-301.18 1260,424 ; 924,-912.2 1032,-912.2 ccw(c1032.16,-892.36) 1052,-892.52 1103,-299.21 1103,424 ; 1103,424 1260,424 ; 1103,424 cw(c1181.5,316.67) 1260,424 ; -919.88,-1295.47 920,-1295.47 920,1096 -919.49,1096 -919.88,-1295.47
Mechanical 16:
  drawing of 334 lines, arcs and shapes, not listed

## 2361-6319 [mil]
pads (361):
  round 56 hole 32: A1(-900,900) A2(-800,900) A3(-700,900) A4(-600,900) A5(-500,900) A6(-400,900) A7(-300,900) A8(-200,900) A9(-100,900) A10(0,900) A11(100,900) A12(200,900) A13(300,900) A14(400,900) A15(500,900) A16(600,900) A17(700,900) A18(800,900) A19(900,900) B1(-900,800) B2(-800,800) B3(-700,800) B4(-600,800) B5(-500,800) B6(-400,800) B7(-300,800) B8(-200,800) B9(-100,800) B10(0,800) B11(100,800) B12(200,800) B13(300,800) B14(400,800) B15(500,800) B16(600,800) B17(700,800) B18(800,800) B19(900,800) C1(-900,700) C2(-800,700) C3(-700,700) C4(-600,700) C5(-500,700) C6(-400,700) C7(-300,700) C8(-200,700) C9(-100,700) C10(0,700) C11(100,700) C12(200,700) C13(300,700) C14(400,700) C15(500,700) C16(600,700) C17(700,700) C18(800,700) C19(900,700) D1(-900,600) D2(-800,600) D3(-700,600) D4(-600,600) D5(-500,600) D6(-400,600) D7(-300,600) D8(-200,600) D9(-100,600) D10(0,600) D11(100,600) D12(200,600) D13(300,600) D14(400,600) D15(500,600) D16(600,600) D17(700,600) D18(800,600) D19(900,600) E1(-900,500) E2(-800,500) E3(-700,500) E4(-600,500) E5(-500,500) E6(-400,500) E7(-300,500) E8(-200,500) E9(-100,500) E10(0,500) E11(100,500) E12(200,500) E13(300,500) E14(400,500) E15(500,500) E16(600,500) E17(700,500) E18(800,500) E19(900,500) F1(-900,400) F2(-800,400) F3(-700,400) F4(-600,400) F5(-500,400) F6(-400,400) F7(-300,400) F8(-200,400) F9(-100,400) F10(0,400) F11(100,400) F12(200,400) F13(300,400) F14(400,400) F15(500,400) F16(600,400) F17(700,400) F18(800,400) F19(900,400) G1(-900,300) G2(-800,300) G3(-700,300) G4(-600,300) G5(-500,300) G6(-400,300) G7(-300,300) G8(-200,300) G9(-100,300) G10(0,300) G11(100,300) G12(200,300) G13(300,300) G14(400,300) G15(500,300) G16(600,300) G17(700,300) G18(800,300) G19(900,300) H1(-900,200) H2(-800,200) H3(-700,200) H4(-600,200) H5(-500,200) H6(-400,200) H7(-300,200) H8(-200,200) H9(-100,200) H10(0,200) H11(100,200) H12(200,200) H13(300,200) H14(400,200) H15(500,200) H16(600,200) H17(700,200) H18(800,200) H19(900,200) J1(-900,100) J2(-800,100) J3(-700,100) J4(-600,100) J5(-500,100) J6(-400,100) J7(-300,100) J8(-200,100) J9(-100,100) J10(0,100) J11(100,100) J12(200,100) J13(300,100) J14(400,100) J15(500,100) J16(600,100) J17(700,100) J18(800,100) J19(900,100) K1(-900,0) K2(-800,0) K3(-700,0) K4(-600,0) K5(-500,0) K6(-400,0) K7(-300,0) K8(-200,0) K9(-100,0) K10(0,0) K11(100,0) K12(200,0) K13(300,0) K14(400,0) K15(500,0) K16(600,0) K17(700,0) K18(800,0) K19(900,0) L1(-900,-100) L2(-800,-100) L3(-700,-100) L4(-600,-100) L5(-500,-100) L6(-400,-100) L7(-300,-100) L8(-200,-100) L9(-100,-100) L10(0,-100) L11(100,-100) L12(200,-100) L13(300,-100) L14(400,-100) L15(500,-100) L16(600,-100) L17(700,-100) L18(800,-100) L19(900,-100) M1(-900,-200) M2(-800,-200) M3(-700,-200) M4(-600,-200) M5(-500,-200) M6(-400,-200) M7(-300,-200) M8(-200,-200) M9(-100,-200) M10(0,-200) M11(100,-200) M12(200,-200) M13(300,-200) M14(400,-200) M15(500,-200) M16(600,-200) M17(700,-200) M18(800,-200) M19(900,-200) N1(-900,-300) N2(-800,-300) N3(-700,-300) N4(-600,-300) N5(-500,-300) N6(-400,-300) N7(-300,-300) N8(-200,-300) N9(-100,-300) N10(0,-300) N11(100,-300) N12(200,-300) N13(300,-300) N14(400,-300) N15(500,-300) N16(600,-300) N17(700,-300) N18(800,-300) N19(900,-300) P1(-900,-400) P2(-800,-400) P3(-700,-400) P4(-600,-400) P5(-500,-400) P6(-400,-400) P7(-300,-400) P8(-200,-400) P9(-100,-400) P10(0,-400) P11(100,-400) P12(200,-400) P13(300,-400) P14(400,-400) P15(500,-400) P16(600,-400) P17(700,-400) P18(800,-400) P19(900,-400) Q1(-900,-500) Q2(-800,-500) Q3(-700,-500) Q4(-600,-500) Q5(-500,-500) Q6(-400,-500) Q7(-300,-500) Q8(-200,-500) Q9(-100,-500) Q10(0,-500) Q11(100,-500) Q12(200,-500) Q13(300,-500) Q14(400,-500) Q15(500,-500) Q16(600,-500) Q17(700,-500) Q18(800,-500) Q19(900,-500) R1(-900,-600) R2(-800,-600) R3(-700,-600) R4(-600,-600) R5(-500,-600) R6(-400,-600) R7(-300,-600) R8(-200,-600) R9(-100,-600) R10(0,-600) R11(100,-600) R12(200,-600) R13(300,-600) R14(400,-600) R15(500,-600) R16(600,-600) R17(700,-600) R18(800,-600) R19(900,-600) S1(-900,-700) S2(-800,-700) S3(-700,-700) S4(-600,-700) S5(-500,-700) S6(-400,-700) S7(-300,-700) S8(-200,-700) S9(-100,-700) S10(0,-700) S11(100,-700) S12(200,-700) S13(300,-700) S14(400,-700) S15(500,-700) S16(600,-700) S17(700,-700) S18(800,-700) S19(900,-700) T1(-900,-800) T2(-800,-800) T3(-700,-800) T4(-600,-800) T5(-500,-800) T6(-400,-800) T7(-300,-800) T8(-200,-800) T9(-100,-800) T10(0,-800) T11(100,-800) T12(200,-800) T13(300,-800) T14(400,-800) T15(500,-800) T16(600,-800) T17(700,-800) T18(800,-800) T19(900,-800) U1(-900,-900) U2(-800,-900) U3(-700,-900) U4(-600,-900) U5(-500,-900) U6(-400,-900) U7(-300,-900) U8(-200,-900) U9(-100,-900) U10(0,-900) U11(100,-900) U12(200,-900) U13(300,-900) U14(400,-900) U15(500,-900) U16(600,-900) U17(700,-900) U18(800,-900) U19(900,-900)
Top Overlay:
  circle w4: c0,1096 r35
  circle w4: c0,-1095.06 r35
  lines w12: 1022,-1214.76 1111,-1214.76 ccw(c1108.88,-1094.64) 1229,-1092.52 1229,565 ccw(c1150,565) 1150,644 ccw(c1150.5,565.5) 1072,565 1072,-1037.6 cw(c1052.16,-1037.44) 1052,-1057.28 1022,-1057.28 ; -1019.88,-1391.93 1020,-1391.93 1020,1192 -1019.88,1192 -1019.88,-1391.93
Mechanical 16:
  drawing of 406 lines, arcs and shapes, not listed

## 2361-6319-F [mil]
pads (361):
  round 56 hole 32: A1(-900,900) A2(-800,900) A3(-700,900) A4(-600,900) A5(-500,900) A6(-400,900) A7(-300,900) A8(-200,900) A9(-100,900) A10(0,900) A11(100,900) A12(200,900) A13(300,900) A14(400,900) A15(500,900) A16(600,900) A17(700,900) A18(800,900) A19(900,900) B1(-900,800) B2(-800,800) B3(-700,800) B4(-600,800) B5(-500,800) B6(-400,800) B7(-300,800) B8(-200,800) B9(-100,800) B10(0,800) B11(100,800) B12(200,800) B13(300,800) B14(400,800) B15(500,800) B16(600,800) B17(700,800) B18(800,800) B19(900,800) C1(-900,700) C2(-800,700) C3(-700,700) C4(-600,700) C5(-500,700) C6(-400,700) C7(-300,700) C8(-200,700) C9(-100,700) C10(0,700) C11(100,700) C12(200,700) C13(300,700) C14(400,700) C15(500,700) C16(600,700) C17(700,700) C18(800,700) C19(900,700) D1(-900,600) D2(-800,600) D3(-700,600) D4(-600,600) D5(-500,600) D6(-400,600) D7(-300,600) D8(-200,600) D9(-100,600) D10(0,600) D11(100,600) D12(200,600) D13(300,600) D14(400,600) D15(500,600) D16(600,600) D17(700,600) D18(800,600) D19(900,600) E1(-900,500) E2(-800,500) E3(-700,500) E4(-600,500) E5(-500,500) E6(-400,500) E7(-300,500) E8(-200,500) E9(-100,500) E10(0,500) E11(100,500) E12(200,500) E13(300,500) E14(400,500) E15(500,500) E16(600,500) E17(700,500) E18(800,500) E19(900,500) F1(-900,400) F2(-800,400) F3(-700,400) F4(-600,400) F5(-500,400) F6(-400,400) F7(-300,400) F8(-200,400) F9(-100,400) F10(0,400) F11(100,400) F12(200,400) F13(300,400) F14(400,400) F15(500,400) F16(600,400) F17(700,400) F18(800,400) F19(900,400) G1(-900,300) G2(-800,300) G3(-700,300) G4(-600,300) G5(-500,300) G6(-400,300) G7(-300,300) G8(-200,300) G9(-100,300) G10(0,300) G11(100,300) G12(200,300) G13(300,300) G14(400,300) G15(500,300) G16(600,300) G17(700,300) G18(800,300) G19(900,300) H1(-900,200) H2(-800,200) H3(-700,200) H4(-600,200) H5(-500,200) H6(-400,200) H7(-300,200) H8(-200,200) H9(-100,200) H10(0,200) H11(100,200) H12(200,200) H13(300,200) H14(400,200) H15(500,200) H16(600,200) H17(700,200) H18(800,200) H19(900,200) J1(-900,100) J2(-800,100) J3(-700,100) J4(-600,100) J5(-500,100) J6(-400,100) J7(-300,100) J8(-200,100) J9(-100,100) J10(0,100) J11(100,100) J12(200,100) J13(300,100) J14(400,100) J15(500,100) J16(600,100) J17(700,100) J18(800,100) J19(900,100) K1(-900,0) K2(-800,0) K3(-700,0) K4(-600,0) K5(-500,0) K6(-400,0) K7(-300,0) K8(-200,0) K9(-100,0) K10(0,0) K11(100,0) K12(200,0) K13(300,0) K14(400,0) K15(500,0) K16(600,0) K17(700,0) K18(800,0) K19(900,0) L1(-900,-100) L2(-800,-100) L3(-700,-100) L4(-600,-100) L5(-500,-100) L6(-400,-100) L7(-300,-100) L8(-200,-100) L9(-100,-100) L10(0,-100) L11(100,-100) L12(200,-100) L13(300,-100) L14(400,-100) L15(500,-100) L16(600,-100) L17(700,-100) L18(800,-100) L19(900,-100) M1(-900,-200) M2(-800,-200) M3(-700,-200) M4(-600,-200) M5(-500,-200) M6(-400,-200) M7(-300,-200) M8(-200,-200) M9(-100,-200) M10(0,-200) M11(100,-200) M12(200,-200) M13(300,-200) M14(400,-200) M15(500,-200) M16(600,-200) M17(700,-200) M18(800,-200) M19(900,-200) N1(-900,-300) N2(-800,-300) N3(-700,-300) N4(-600,-300) N5(-500,-300) N6(-400,-300) N7(-300,-300) N8(-200,-300) N9(-100,-300) N10(0,-300) N11(100,-300) N12(200,-300) N13(300,-300) N14(400,-300) N15(500,-300) N16(600,-300) N17(700,-300) N18(800,-300) N19(900,-300) P1(-900,-400) P2(-800,-400) P3(-700,-400) P4(-600,-400) P5(-500,-400) P6(-400,-400) P7(-300,-400) P8(-200,-400) P9(-100,-400) P10(0,-400) P11(100,-400) P12(200,-400) P13(300,-400) P14(400,-400) P15(500,-400) P16(600,-400) P17(700,-400) P18(800,-400) P19(900,-400) Q1(-900,-500) Q2(-800,-500) Q3(-700,-500) Q4(-600,-500) Q5(-500,-500) Q6(-400,-500) Q7(-300,-500) Q8(-200,-500) Q9(-100,-500) Q10(0,-500) Q11(100,-500) Q12(200,-500) Q13(300,-500) Q14(400,-500) Q15(500,-500) Q16(600,-500) Q17(700,-500) Q18(800,-500) Q19(900,-500) R1(-900,-600) R2(-800,-600) R3(-700,-600) R4(-600,-600) R5(-500,-600) R6(-400,-600) R7(-300,-600) R8(-200,-600) R9(-100,-600) R10(0,-600) R11(100,-600) R12(200,-600) R13(300,-600) R14(400,-600) R15(500,-600) R16(600,-600) R17(700,-600) R18(800,-600) R19(900,-600) S1(-900,-700) S2(-800,-700) S3(-700,-700) S4(-600,-700) S5(-500,-700) S6(-400,-700) S7(-300,-700) S8(-200,-700) S9(-100,-700) S10(0,-700) S11(100,-700) S12(200,-700) S13(300,-700) S14(400,-700) S15(500,-700) S16(600,-700) S17(700,-700) S18(800,-700) S19(900,-700) T1(-900,-800) T2(-800,-800) T3(-700,-800) T4(-600,-800) T5(-500,-800) T6(-400,-800) T7(-300,-800) T8(-200,-800) T9(-100,-800) T10(0,-800) T11(100,-800) T12(200,-800) T13(300,-800) T14(400,-800) T15(500,-800) T16(600,-800) T17(700,-800) T18(800,-800) T19(900,-800) U1(-900,-900) U2(-800,-900) U3(-700,-900) U4(-600,-900) U5(-500,-900) U6(-400,-900) U7(-300,-900) U8(-200,-900) U9(-100,-900) U10(0,-900) U11(100,-900) U12(200,-900) U13(300,-900) U14(400,-900) U15(500,-900) U16(600,-900) U17(700,-900) U18(800,-900) U19(900,-900)
Top Overlay:
  circle w4: c0,1096 r35
  circle w4: c0,-1095.06 r35
  lines w12: 1022,-1254.72 1245,-1254.72 ccw(c1221.17,-1069.89) 1406,-1046.06 1363,-399.61 1363,719 ; 1026,-1010.63 1135,-1010.63 ccw(c1134.66,-991.29) 1154,-990.94 1205,-397.64 1205,719 ; 1205,719 1363,719 ; 1205,719 cw(c1284,610.98) 1363,719 ; -1019.88,-1391.93 1020,-1391.93 1020,1192 -1019.88,1192 -1019.88,-1391.93
Mechanical 16:
  drawing of 406 lines, arcs and shapes, not listed